# Altium schematic symbol library XY-017.SchLib: 1 symbol
Pins are listed as number, name and electrical type; pins without a type are passive.

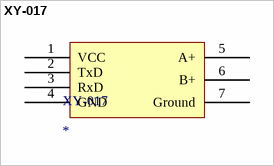
[diagram p0: symbol XY-017]

## XY-017
designator XY-017
pins: 1 VCC, 2 TxD, 3 RxD, 4 GND, 5 A+, 6 B+, 7 Ground